# Altium schematic symbol library Schlib1.SchLib: 63 symbols (part 2 of 2)
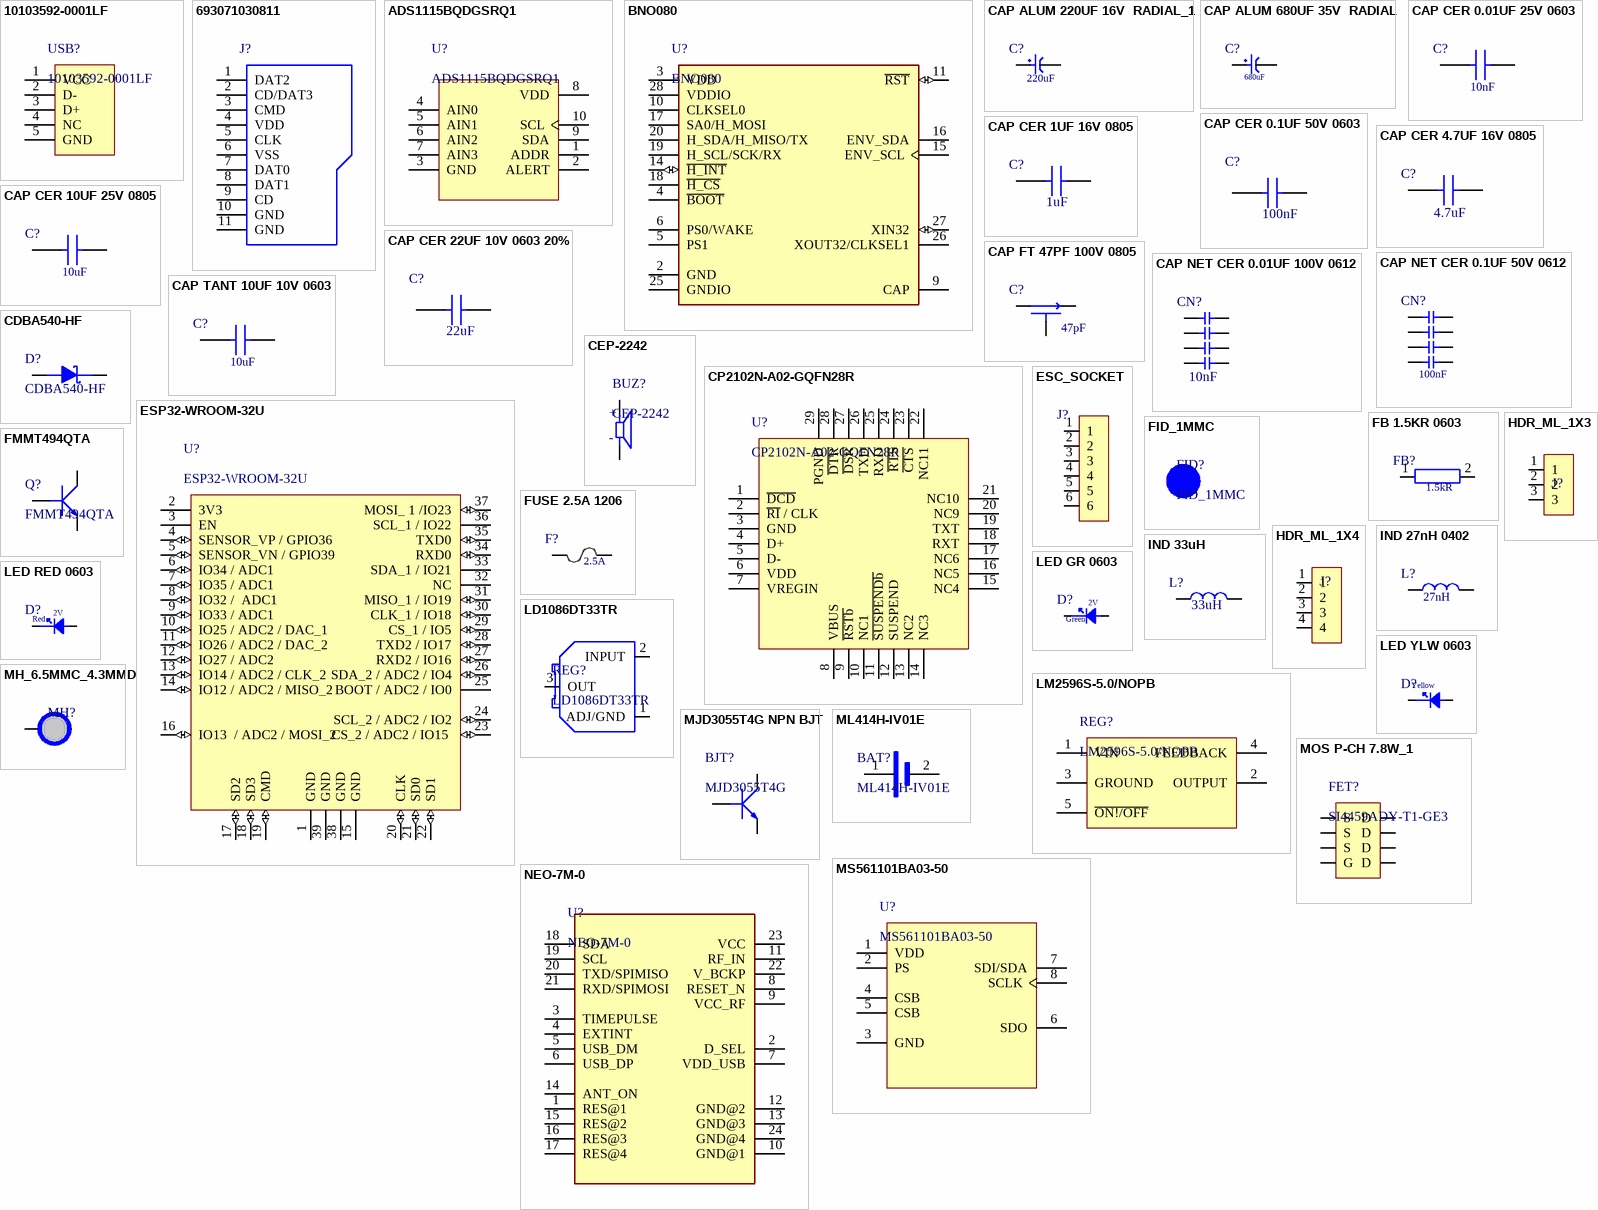
[diagram p2: symbols 10103592-0001LF to NEO-7M-0]

## MJD3055T4G NPN BJT
designator BJT?, comment MJD3055T4G
TRANS NPN 60V 10A DPAK; Manufacturer: ON Semiconductor; Max Power Dissipation: 1.75W; Frequency: 2MHz; Collector Base Voltage (VCBO): 70V; Emitter Base Voltage (VEBO): 5V; Number of Elements: 1; hFE Min: 20; Collector Emitter Saturation Voltage: 1.1V; Element Configuration: Single; Max Frequency: 500kHz; Collector-emitter Voltage-Max: 8V; Supplier 1: Digi-Key; Manufacturer Part Number: MJD3055T4G; RoHS: Yes; Category: BJTs; Stock 1: 25176; Pricing 1: 1=0.76000, 10=0.67100, 25=0.63000, 100=0.51410, 500=0.40640, 1000=0.33548 (USD); Case/Package: DPAK; Number of Pins: 3; Weight: 0.351; Min Operating Temperature: -55°C; Max Operating Temperature: 150°C; Package Quantity: 1; Collector Emitter Voltage (VCEO): 60V; Packaging: Tape and Reel; Polarity: NPN; Max Collector Current: 10A; Collector Emitter Breakdown Voltage: 60V; Transition Frequency: 2MHz; Power Dissipation: 1.75W; Max Breakdown Voltage: 60V; Gain Bandwidth Product: 2MHz; Voltage Rating (DC): 60V; Current Rating: 10A; Series: -; Length: 6.73mm; Width: 6.22mm; Height: 2.38mm; Radiation Hardening: No; Lead Free: Lead Free; RoHS Compliant: Yes; REACH SVHC: No SVHC; ComponentLink1URL: https://datasheet.ciiva.com/7972/79237-7972276.pdf?src-supplier=Element14; ComponentLink1Description: https://datasheet.ciiva.com/7972/79237-7972276.pdf?src-supplier=Element14; ComponentLink2URL: https://datasheet.ciiva.com/15139/getdatasheetpartid-91662-15139167.pdf?src-supplier=Verical; ComponentLink2Description: https://datasheet.ciiva.com/15139/getdatasheetpartid-91662-15139167.pdf?src-supplier=Verical; ComponentLink3URL: https://datasheet.ciiva.com/981/mjd2955-d-981380.pdf?src-supplier=Digi-Key; ComponentLink3Description: https://datasheet.ciiva.com/981/mjd2955-d-981380.pdf?src-supplier=Digi-Key; ComponentLink4URL: https://datasheet.ciiva.com/981/mjd2955-d-981381.pdf?src-supplier=Digi-Key; ComponentLink4Description: https://datasheet.ciiva.com/981/mjd2955-d-981381.pdf?src-supplier=Digi-Key; ComponentLink5URL: https://datasheet.ciiva.com/11205/mjd2955-d-11205173.pdf?src-supplier=Avnet; ComponentLink5Description: https://datasheet.ciiva.com/11205/mjd2955-d-11205173.pdf?src-supplier=Avnet; ComponentLink6URL: https://datasheet.ciiva.com/6357/mjd2955-d-6357033.pdf?src-supplier=Digi-Key; ComponentLink6Description: https://datasheet.ciiva.com/6357/mjd2955-d-6357033.pdf?src-supplier=Digi-Key; ComponentLink7URL: https://datasheet.ciiva.com/16462/mjd2955-d-16462217.pdf?src-supplier=Future+Electronics; ComponentLink7Description: https://datasheet.ciiva.com/16462/mjd2955-d-16462217.pdf?src-supplier=Future+Electronics; ComponentLink8URL: https://datasheet.ciiva.com/26115/mjd2955-d-26115500.pdf?src-supplier=Avnet+Europe; ComponentLink8Description: https://datasheet.ciiva.com/26115/mjd2955-d-26115500.pdf?src-supplier=Avnet+Europe; ComponentLink9URL: https://datasheet.ciiva.com/11198/mjd2955-d-11198541.pdf?src-supplier=Avnet; ComponentLink9Description: https://datasheet.ciiva.com/11198/mjd2955-d-11198541.pdf?src-supplier=Avnet; Supplier Part Number 1: MJD3055T4GOSCT-ND
footprint TO-263-3
pins: B, C, E

## ML414H-IV01E
designator BAT?
BATTERY LITHIUM 3V RECHARGE; Manufacturer: Seiko; Supplier 1: Mouser; Manufacturer Part Number: ML414H-IV01E; RoHS: Yes; Category: Batteries and Accessories; Stock 1: 5581; Pricing 1: 1=1.82000, 10=1.63000, 50=1.45000, 100=1.27000, 1000=0.96600, 10000=0.81500 (USD); Weight: 0.007; Termination: SMD/SMT; Package Quantity: 1; Voltage Rating: 3V; Packaging: Tape and Reel; ComponentLink1URL: https://datasheet.ciiva.com/3/ml414h-e-3633.pdf?src-supplier=Digi-Key; ComponentLink1Description: https://datasheet.ciiva.com/3/ml414h-e-3633.pdf?src-supplier=Digi-Key; ComponentLink2URL: https://datasheet.ciiva.com/3/ml414h-e-3634.pdf?src-supplier=Digi-Key; ComponentLink2Description: https://datasheet.ciiva.com/3/ml414h-e-3634.pdf?src-supplier=Digi-Key; Supplier Part Number 1: 628-ML414H-IV01E
footprint ML414H-IV01E
pins: 1 POS, 2 NEG

## MOS P-CH 7.8W_1
designator FET?, comment SI4459ADY-T1-GE3
VISHAY   SI4459ADY-T1-GE3   P CHANNEL MOSFET, -30V, 29A, SOIC, FULL REEL; Manufacturer: Vishay Siliconix; Rds On Max: 5mR; Input Capacitance: 6nF; Nominal Vgs: -2.5V; Rise Time: 16ns; Drain to Source Voltage (Vdss): 30V; Continuous Drain Current (ID): 19.7A; Max Power Dissipation: 7.8W; Gate to Source Voltage (Vgs): 20V; Fall Time: 20ns; Turn-Off Delay Time: 80ns; Number of Elements: 1; Power Dissipation: 3.5W; Element Configuration: Single; Polarity: P-CHANNEL; Supplier 1: Digi-Key; Manufacturer Part Number: SI4459ADY-T1-GE3; RoHS: Yes; Category: MOSFETs; Stock 1: 9839; Pricing 1: 1=1.62000, 10=1.45000, 25=1.37640, 100=1.13070, 500=0.93402, 1000=0.73738 (USD); Mount: Surface Mount; Case/Package: SOIC; Number of Pins: 8; Weight: 0.006596oz; Contact Plating: Tin,Matte; Min Operating Temperature: -55°C; Max Operating Temperature: 150°C; Package Quantity: 2500; Packaging: Tape and Reel; Drain to Source Resistance: 5mR; Threshold Voltage: -2.5V; Drain to Source Breakdown Voltage: -30V; Number of Channels: 1; Turn-On Delay Time: 16ns; On-State Resistance: 5MR; Series: TrenchFET®; Drain-source On Resistance-Max: 5MR; Length: 5mm; Width: 4mm; Height: 1.5mm; Radiation Hardening: No; REACH SVHC: Unknown; Lead Free: Lead Free; RoHS Compliant: Yes; ComponentLink1URL: https://datasheet.ciiva.com/933/si4459ad-933200.pdf?src-supplier=Digi-Key; ComponentLink1Description: https://datasheet.ciiva.com/933/si4459ad-933200.pdf?src-supplier=Digi-Key; ComponentLink2URL: https://datasheet.ciiva.com/13062/si4459ad-244618-13062620.pdf?src-supplier=Mouser; ComponentLink2Description: https://datasheet.ciiva.com/13062/si4459ad-244618-13062620.pdf?src-supplier=Mouser; ComponentLink3URL: https://datasheet.ciiva.com/933/si4459ad-933201.pdf?src-supplier=Digi-Key; ComponentLink3Description: https://datasheet.ciiva.com/933/si4459ad-933201.pdf?src-supplier=Digi-Key; ComponentLink4URL: https://datasheet.ciiva.com/933/si4459ad-933202.pdf?src-supplier=Digi-Key; ComponentLink4Description: https://datasheet.ciiva.com/933/si4459ad-933202.pdf?src-supplier=Digi-Key; ComponentLink5URL: https://datasheet.ciiva.com/7710/si4459ad-7710183.pdf?src-supplier=Element14; ComponentLink5Description: https://datasheet.ciiva.com/7710/si4459ad-7710183.pdf?src-supplier=Element14; ComponentLink6URL: https://datasheet.ciiva.com/26136/si4459ad-26136775.pdf?src-supplier=Avnet+Europe; ComponentLink6Description: https://datasheet.ciiva.com/26136/si4459ad-26136775.pdf?src-supplier=Avnet+Europe; Supplier Part Number 1: SI4459ADY-T1-GE3CT-ND
footprint SOIC-8
pins: 1 S, 2 S, 3 S, 4 G, 5 D, 6 D, 7 D, 8 D

## MS561101BA03-50
designator U?
SENSOR SOLUTIONS - TE CONNECTIVITY - MS561101BA03-50 - MS5611-BT M-CAPS 3X5X1MM T&R / T&R; Operating Supply Voltage: 3.6V; Output Type: SPI,I2C; Pressure Type: Absolute; Operating Pressure: 17.4PSI; Port Style: No Port; Max Pressure: 87.02PSI; Supplier 1: Mouser; Manufacturer: TE Connectivity; Manufacturer Part Number: MS561101BA03-50; RoHS: Yes; Category: Pressure Sensors; Stock 1: 6749; Pricing 1: 1=10.84000, 10=8.20000, 50=8.20000, 100=7.25000, 1000=6.32000, 10000=6.13000 (USD); Case/Package: SMD/SMT; Number of Pins: 8; Min Operating Temperature: -40°C; Max Operating Temperature: 85°C; Termination: SMD/SMT; Lead Free: Lead Free; RoHS Compliant: Yes; ComponentLink1URL: http://www.farnell.com/datasheets/2917208.pdf?src-supplier=Farnell; ComponentLink1Description: http://www.farnell.com/datasheets/2917208.pdf?src-supplier=Farnell; ComponentLink2URL: http://www.farnell.com/datasheets/1756128.pdf?src-supplier=Newark; ComponentLink2Description: http://www.farnell.com/datasheets/1756128.pdf?src-supplier=Newark; ComponentLink3URL: https://www.te.com/commerce/DocumentDelivery/DDEController?Action=srchrtrv&DocNm=MS5611-01BA03&DocType=Data+Sheet&DocLang=English&src-supplier=Digi-Key; ComponentLink3Description: https://www.te.com/commerce/DocumentDelivery/DDEController?Action=srchrtrv&DocNm=MS5611-01BA03&DocType=Data+Sheet&DocLang=English&src-supplier=Digi-Key; Supplier Part Number 1: 824-MS561101BA03-50; Weight: 0.034
footprint MS561101BA03-50
pins: 1 VDD (power), 2 PS (power), 3 GND (power), 4 CSB (power), 5 CSB (power), 6 SDO (power), 7 SDI/SDA (power), 8 SCLK (power)

## NEO-7M-0
designator U?
series RF Receiver GLONASS, GNSS, GPS 1.575GHz -161dBm - - -; Manufacturer: u-blox; Interface: I2C,SPI,USB,UART; Supplier 1: Digi-Key; Manufacturer Part Number: NEO-7M-0; RoHS: Yes; Category: RF Receivers, Transceivers; Pricing 1: 1=26.50000, 10=25.70000, 50=21.08000, 100=16.88010 (USD); Case/Package: SMD/SMT; Min Operating Temperature: -40°C; Max Operating Temperature: 85°C; Packaging: Tape and Reel; Frequency: 1.575GHz; Sensitivity: -161dBm; ComponentLink1URL: https://www.u-blox.com/sites/default/files/products/documents/NEO-7_DataSheet_%28UBX-13003830%29.pdf?src-supplier=Digi-Key; ComponentLink1Description: https://www.u-blox.com/sites/default/files/products/documents/NEO-7_DataSheet_%28UBX-13003830%29.pdf?src-supplier=Digi-Key; Supplier Part Number 1: 672-NEO-7M-0CT-ND
footprint NEO-7M-0
pins: 1 RES@1 (power), 2 D_SEL (power), 3 TIMEPULSE (power), 4 EXTINT (power), 5 USB_DM (power), 6 USB_DP (power), 7 VDD_USB (power), 8 RESET_N (power), 9 VCC_RF (power), 10 GND@1 (power), 11 RF_IN (power), 12 GND@2 (power), 13 GND@3 (power), 14 ANT_ON (power), 15 RES@2 (power), 16 RES@3 (power), 17 RES@4 (power), 18 SDA (power), 19 SCL (power), 20 TXD/SPIMISO (power), 21 RXD/SPIMOSI (power), 22 V_BCKP (power), 23 VCC (power), 24 GND@4 (power)

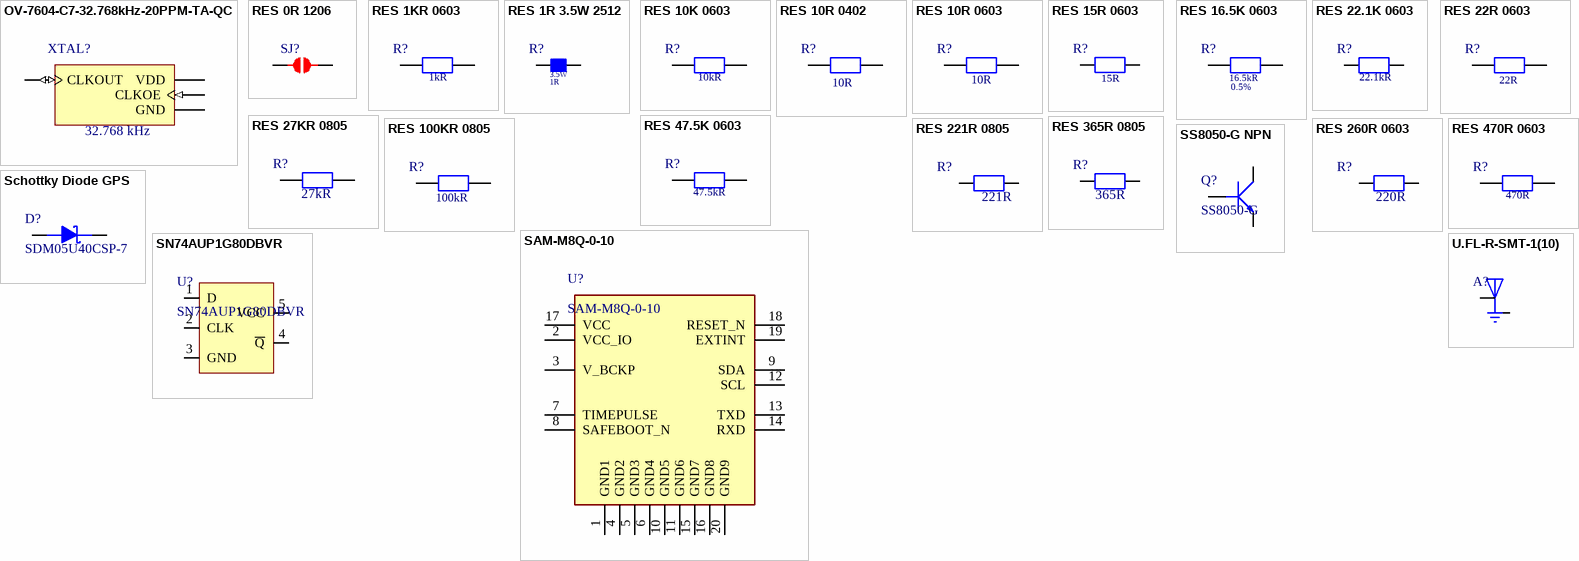
[diagram p1: symbols OV-7604-C7-32.768kHz-20PPM-TA-QC to U.FL-R-SMT-1(10)]

## OV-7604-C7-32.768kHz-20PPM-TA-QC
designator XTAL?  Frequency: 32.768 kHz  (hidden comment: OV-7604-C7-32.768kHz-20PPM-TA-QC)
Osc Xo 32.768KHZ SMD; Manufacturer: Micro Crystal; Supplier 1: Digi-Key; Manufacturer Part Number: OV-7604-C7-32.768kHz-20PPM-TA-QC; RoHS: No; Category: Oscillators; Stock 1: 24629; Pricing 1: 1=2.00000, 10=1.91300, 50=1.86880, 100=1.60180, 500=1.55732 (USD); ComponentLink1URL: https://www.mouser.com/ds/2/530/OV-7604-C7-1128495.pdf?src-supplier=Mouser; ComponentLink1Description: https://www.mouser.com/ds/2/530/OV-7604-C7-1128495.pdf?src-supplier=Mouser; Supplier Part Number 1: 2195-OV-7604-C7-32.768KHZ-20PPM-TA-QCCT-ND; Weight: 0.173
footprint OV-7604-C7-32.768KHZ-20PPM-TA-QC
pins: 1 CLKOUT (io), 2 GND (power), 3 CLKOE (in), 4 VDD (power)

## RES 0R 1206
designator SJ?, comment RC1206FR-070RL  (value not drawn)
RES SMD 0 OHM JUMPER 1/4W 1206; Manufacturer: Yageo; Tolerance: 1%; Temperature Coefficient: 200ppm/°C; Power Rating: 250mW; Resistance: 0R; Supplier 1: Digi-Key; Manufacturer Part Number: RC1206FR-070RL; RoHS: Yes; Category: Chip SMD Resistors; Stock 1: 128672; Pricing 1: 1=0.10000, 10=0.05800, 25=0.04160, 50=0.03180, 100=0.02350, 250=0.01792, 500=0.01432, 1000=0.01055 (USD); Mount: Surface Mount; Case/Package: 1206; Contact Plating: Tin,Matte; Case Code (Metric): 3216; Case Code (Imperial): 1206; Size Code: 1206; Min Operating Temperature: -55°C; Max Operating Temperature: 155°C; Resistor Type: Thick Film; Packaging: Tape and Reel; Number of Terminations: 2; Max Power Dissipation: 250mW; Features: Moisture Resistant; Series: RC; Length: 0.122inch; Width: 0.063inch; Height: 0.026inch; Radiation Hardening: No; RoHS Compliant: Yes; Lead Free: Lead Free; ComponentLink1URL: https://datasheet.ciiva.com/17032/pyu-rc1206-51-rohs-l-4-17032972.pdf?src-supplier=Future+Electronics; ComponentLink1Description: https://datasheet.ciiva.com/17032/pyu-rc1206-51-rohs-l-4-17032972.pdf?src-supplier=Future+Electronics; Supplier Part Number 1: YAG3367CT-ND; Weight: 0.016
footprint RES 1206
pins: 1, 2

## RES 1KR 0603
designator R?, comment Resistance: 1kR  (hidden comment: RC0603FR-071KL)
RES SMD 1K OHM 1% 1/10W 0603; Manufacturer: Yageo; Temperature Coefficient: 100ppm/°C; Power Rating: 100mW; Voltage Rating: 50V; Supplier 1: Digi-Key; Manufacturer Part Number: RC0603FR-071KL; RoHS: Yes; Category: Chip SMD Resistors; Stock 1: 12963545; Pricing 1: 1=0.10000, 10=0.02400, 100=0.00970, 1000=0.00436, 2500=0.00378 (USD); Case/Package: 0603; Contact Plating: Tin,Matte; Case Code (Imperial): 0603; Case Code (Metric): 1608; Size Code: 0603; Min Operating Temperature: -55°C; Max Operating Temperature: 155°C; Tolerance: 1%; Resistor Type: Thick Film; Packaging: Tape and Reel; Termination: SMD/SMT; Features: Moisture Resistant; Series: RC; Max Power Dissipation: 100mW; Number of Terminations: 2; Technology: THICK FILM; Resistance Tolerance: 1%; Construction: Rectangular; Length: 1.6mm; Height: 0.45mm; Depth: 0.8mm; Radiation Hardening: No; REACH SVHC: No SVHC; Lead Free: Lead Free; Military Standard: Not; RoHS Compliant: Yes; Supplier Part Number 1: 311-1.00KHRCT-ND; Weight: 0.016
footprint RES 0603
pins: 1, 2

## RES 1R 3.5W 2512
designator R?, comment Power (Watts): 3.5W  Resistance: 1R  (hidden comment: 738-CSRT2512FT1R00-UPCT-ND)
1 Ohms ±1% 3.5W Chip Resistor 2512 (6432 Metric) Automotive AEC-Q200, Current Sense Thin Film; Manufacturer: Stackpole Electronics; Manufacturer Part Number: CSRT2512FT1R00-UP; RoHS: Yes; Stock 1: 7478; Pricing 1: 1=0.67000, 10=0.56000, 25=0.48000, 50=0.43200, 100=0.37600, 250=0.33600, 500=0.27200, 1000=0.22000 (USD); Supplier 1: Digi-Key; ComponentLink1Description: Datasheet; ComponentLink1URL: https://www.seielect.com/Catalog/SEI-CSRT.pdf; Package / Case: 2512; Operating Temperature: 55°C ~ 170°C; Tolerance: ±1%; Supplier Part Number 1: 738-CSRT2512FT1R00-UPCT-ND
footprint RES 2512
pins: 1, 2

## RES 10K 0603
designator R?, comment Resistance: 10kR  (hidden comment: RC0603FR-0710KL)
Res General Purpose Thick Film 0603 10K Ohm 1% 1/10W ±100ppm/°C Molded SMD Paper T/R; Manufacturer: Yageo; Voltage Rating (DC): 50V; Power Rating: 100mW; Voltage Rating: 75V; Supplier 1: Digi-Key; Manufacturer Part Number: RC0603FR-0710KL; RoHS: Yes; Category: Chip SMD Resistors; Stock 1: 17970648; Pricing 1: 1=0.10000, 10=0.02400, 100=0.00970, 1000=0.00436, 2500=0.00378 (USD); Case/Package: 0603; Number of Pins: 2; Case Code (Imperial): 0603; Case Code (Metric): 1608; Weight: 0.002; Size Code: 0603; Min Operating Temperature: -55°C; Max Operating Temperature: 155°C; Tolerance: 1%; Resistor Type: Thick Film; Temperature Coefficient: 100ppm/°C; Packaging: Tape and Reel; Termination: SMD/SMT; Features: Moisture Resistant; Series: RC; Max Power Dissipation: 100mW; Number of Terminations: 2; Resistance Tolerance: 1%; Construction: Rectangular; Length: 1.6mm; Width: 0.8mm; Height: 0.45mm; Depth: 0.8mm; Lead Pitch: 0.3mm; REACH SVHC: Unknown; Lead Free: Lead Free; Military Standard: Not; RoHS Compliant: Yes; ComponentLink1URL: https://datasheet.ciiva.com/7660/38590-7660789.pdf?src-supplier=Element14; ComponentLink1Description: https://datasheet.ciiva.com/7660/38590-7660789.pdf?src-supplier=Element14; ComponentLink2URL: https://datasheet.ciiva.com/7983/443971-7983596.pdf?src-supplier=Element14; ComponentLink2Description: https://datasheet.ciiva.com/7983/443971-7983596.pdf?src-supplier=Element14; ComponentLink3URL: https://datasheet.ciiva.com/22747/443971-22747519.pdf?src-supplier=Element14; ComponentLink3Description: https://datasheet.ciiva.com/22747/443971-22747519.pdf?src-supplier=Element14; ComponentLink4URL: https://datasheet.ciiva.com/46440/1868787-46440891.pdf?src-supplier=Element14; ComponentLink4Description: https://datasheet.ciiva.com/46440/1868787-46440891.pdf?src-supplier=Element14; ComponentLink5URL: https://datasheet.ciiva.com/7746/1738695-7746239.pdf?src-supplier=Element14; ComponentLink5Description: https://datasheet.ciiva.com/7746/1738695-7746239.pdf?src-supplier=Element14; ComponentLink6URL: https://datasheet.ciiva.com/15189/getdatasheetpartid-409289-15189591.pdf?src-supplier=Verical; ComponentLink6Description: https://datasheet.ciiva.com/15189/getdatasheetpartid-409289-15189591.pdf?src-supplier=Verical; Supplier Part Number 1: 311-10.0KHRCT-ND
footprint RES 0603
pins: 1, 2

## RES 10R 0402
designator R?, comment Resistance: 10R  (hidden comment: RK73H1ERTTP10R0F)
Thick Film Resistors - SMD Anti Sulfur 0.5 Tol. 0402 -55oC to 155oC; Manufacturer: KOA Speer; Power Rating: 63mW; Tolerance: 1%; Voltage Rating: 50V; Temperature Coefficient: 100ppm/°C; Supplier 1: Digi-Key; Manufacturer Part Number: RK73H1ERTTP10R0F; RoHS: Yes; Category: Chip SMD Resistors; Stock 1: 108727; Pricing 1: 1=0.14000, 10=0.12700, 100=0.04890, 1000=0.02150, 2500=0.01857, 5000=0.01662 (USD); Case/Package: 0402; Case Code (Imperial): 0402; Case Code (Metric): 1005; Weight: 2.3E-05oz; Min Operating Temperature: -55°C; Max Operating Temperature: 155°C; Packaging: Tape and Reel; Package Quantity: 10000; Termination: SMD/SMT; Length: 1mm; Width: 0.5mm; Height: 0.35mm; ComponentLink1URL: http://www.mouser.com/ds/2/219/RK73H-5715.pdf?src-supplier=Mouser; ComponentLink1Description: http://www.mouser.com/ds/2/219/RK73H-5715.pdf?src-supplier=Mouser; Supplier Part Number 1: 2019-RK73H1ERTTP10R0FCT-ND
footprint Res 0402
pins: 1, 2

## RES 10R 0603
designator R?, comment Resistance: 10R  (hidden comment: RR0816Q-100-D)
RES SMD 10 OHM 0.5% 1/16W 0603; Manufacturer: Susumu; Power Rating: 63mW; Voltage Rating: 75V; Temperature Coefficient: 50ppm/°C; Supplier 1: Digi-Key; Manufacturer Part Number: RR0816Q-100-D; RoHS: Yes; Category: Chip SMD Resistors; Stock 1: 159301; Pricing 1: 1=0.10000, 10=0.08500, 100=0.03260, 1000=0.01432, 2500=0.01237 (USD); Case/Package: 0603; Number of Pins: 2; Case Code (Imperial): 0603; Case Code (Metric): 1608; Size Code: 0603; Min Operating Temperature: -55°C; Max Operating Temperature: 125°C; Packaging: Tape and Reel; Tolerance: 0.5%; Package Quantity: 1; Termination: SMD/SMT; Resistor Type: Thin Film; Number of Terminations: 2; Max Power Dissipation: 63mW; Voltage Rating (DC): 75V; Series: RR; Resistance Tolerance: 0.5%; Technology: THIN FILM; Length: 1.6mm; Width: 0.8mm; Height: 0.4mm; Depth: 0.8mm; RoHS Compliant: Yes; REACH SVHC: Unknown; Lead Free: Lead Free; ComponentLink1URL: https://datasheet.ciiva.com/11820/0900766b80808d64-11820511.pdf?src-supplier=RSComponents; ComponentLink1Description: https://datasheet.ciiva.com/11820/0900766b80808d64-11820511.pdf?src-supplier=RSComponents; ComponentLink2URL: https://datasheet.ciiva.com/2526/rr-data-sheet-2526835.pdf?src-supplier=Digi-Key; ComponentLink2Description: https://datasheet.ciiva.com/2526/rr-data-sheet-2526835.pdf?src-supplier=Digi-Key; ComponentLink3URL: https://datasheet.ciiva.com/2526/rr-data-sheet-2526836.pdf?src-supplier=Digi-Key; ComponentLink3Description: https://datasheet.ciiva.com/2526/rr-data-sheet-2526836.pdf?src-supplier=Digi-Key; ComponentLink4URL: https://datasheet.ciiva.com/2526/rr-data-sheet-2526837.pdf?src-supplier=Digi-Key; ComponentLink4Description: https://datasheet.ciiva.com/2526/rr-data-sheet-2526837.pdf?src-supplier=Digi-Key; ComponentLink5URL: https://datasheet.ciiva.com/7984/87330-7984396.pdf?src-supplier=Element14; ComponentLink5Description: https://datasheet.ciiva.com/7984/87330-7984396.pdf?src-supplier=Element14; Supplier Part Number 1: RR08Q10DCT-ND
footprint RES 0603
pins: 1, 2

## RES 15R 0603
designator R?, comment Resistance: 15R  (hidden comment: RC0603FR-0715RL)
Res Thick Film 0603 15 Ohm 1% 0.1W(1/10W) ±100ppm/C Epoxy SMD T/R; Manufacturer: Yageo; Temperature Coefficient: 100ppm/°C; Voltage Rating (DC): 50V; Power Rating: 100mW; Supplier 1: Digi-Key; Manufacturer Part Number: RC0603FR-0715RL; RoHS: Yes; Category: Chip SMD Resistors; Stock 1: 339748; Pricing 1: 1=0.10000, 10=0.02400, 100=0.00970, 1000=0.00436, 2500=0.00378 (USD); Case/Package: 0603; Number of Pins: 2; Contact Plating: Tin,Matte; Case Code (Metric): 1608; Case Code (Imperial): 0603; Size Code: 0603; Min Operating Temperature: -55°C; Max Operating Temperature: 155°C; Tolerance: 1%; Resistor Type: Thick Film; Packaging: Tape and Reel; Voltage Rating: 50V; Package Quantity: 1; Number of Terminations: 2; Termination: SMD/SMT; Max Power Dissipation: 100mW; Features: Moisture Resistant; Series: RC; Construction: Rectangular; Resistance Tolerance: 1%; Length: 1.6mm; Width: 0.8mm; Height: 0.022inch; Depth: 0.8mm; Radiation Hardening: No; REACH SVHC: No SVHC; Lead Free: Lead Free; Military Standard: Not; RoHS Compliant: Yes; ComponentLink1URL: https://datasheet.ciiva.com/7746/443971-7746262.pdf?src-supplier=Element14; ComponentLink1Description: https://datasheet.ciiva.com/7746/443971-7746262.pdf?src-supplier=Element14; ComponentLink2URL: https://datasheet.ciiva.com/8890/pyu-rc0603-51-rohs-l-4-8890742.pdf?src-supplier=Avnet; ComponentLink2Description: https://datasheet.ciiva.com/8890/pyu-rc0603-51-rohs-l-4-8890742.pdf?src-supplier=Avnet; ComponentLink3URL: https://datasheet.ciiva.com/7746/443971-7746263.pdf?src-supplier=Element14; ComponentLink3Description: https://datasheet.ciiva.com/7746/443971-7746263.pdf?src-supplier=Element14; ComponentLink4URL: https://datasheet.ciiva.com/2454/pyu-r-int-thick-7-2454840.pdf?src-supplier=Digi-Key; ComponentLink4Description: https://datasheet.ciiva.com/2454/pyu-r-int-thick-7-2454840.pdf?src-supplier=Digi-Key; ComponentLink5URL: https://datasheet.ciiva.com/5989/1686128-5989704.pdf?src-supplier=Farnell; ComponentLink5Description: https://datasheet.ciiva.com/5989/1686128-5989704.pdf?src-supplier=Farnell; ComponentLink6URL: https://datasheet.ciiva.com/2454/pyu-r-int-thick-7-2454841.pdf?src-supplier=Digi-Key; ComponentLink6Description: https://datasheet.ciiva.com/2454/pyu-r-int-thick-7-2454841.pdf?src-supplier=Digi-Key; ComponentLink7URL: https://datasheet.ciiva.com/2454/pyu-r-int-thick-7-2454842.pdf?src-supplier=Digi-Key; ComponentLink7Description: https://datasheet.ciiva.com/2454/pyu-r-int-thick-7-2454842.pdf?src-supplier=Digi-Key; ComponentLink8URL: https://datasheet.ciiva.com/16940/pyu-rc0603-51-rohs-l-4-16940366.pdf?src-supplier=Avnet+Europe; ComponentLink8Description: https://datasheet.ciiva.com/16940/pyu-rc0603-51-rohs-l-4-16940366.pdf?src-supplier=Avnet+Europe; ComponentLink9URL: https://datasheet.ciiva.com/12557/rc0603-272842-12557839.pdf?src-supplier=Mouser; ComponentLink9Description: https://datasheet.ciiva.com/12557/rc0603-272842-12557839.pdf?src-supplier=Mouser; Supplier Part Number 1: 311-15.0HRCT-ND; Weight: 0.002
footprint RES 0603
pins: 1, 2

## RES 16.5K 0603
designator R?, comment Tolerance: 0.5%  Resistance: 16.5kR  (hidden comment: ERJ-PB3D1652V)
Res Thick Film 0603 16.5K Ohm 0.5% 0.2W(1/5W) ±50ppm/C Pad SMD Automotive T/R; Manufacturer: Panasonic; Max Power Dissipation: 200mW; Temperature Coefficient: 50ppm/°C; Supplier 1: Digi-Key; Manufacturer Part Number: ERJ-PB3D1652V; RoHS: Yes; Category: Chip SMD Resistors; Stock 1: 4762; Pricing 1: 1=0.16000, 10=0.13500, 25=0.09840, 50=0.07140, 100=0.05290, 250=0.04060, 500=0.03198, 1000=0.02214 (USD); Case/Package: 0603; Case Code (Metric): 1608; Case Code (Imperial): 0603; Min Operating Temperature: -55°C; Max Operating Temperature: 155°C; Packaging: Tape and Reel; Features: Automotive AEC-Q200; Resistor Type: Thick Film; Number of Terminations: 2; Length: 0.063inch; Width: 0.032inch; Height - Seated (Max): 0.022inch; ComponentLink1URL: https://industrial.panasonic.com/sa/system/files/data/download/catalog/id_fixed-resistors_e_2.pdf?src-supplier=Digi-Key; ComponentLink1Description: https://industrial.panasonic.com/sa/system/files/data/download/catalog/id_fixed-resistors_e_2.pdf?src-supplier=Digi-Key; Supplier Part Number 1: P20420CT-ND
footprint RES 0603
pins: 1, 2

## RES 22.1K 0603
designator R?, comment Resistance: 22.1kR  (hidden comment: RMCF0603FT22K1)
RMCF Series 0603 Case 22.1 kOhm ±1 % ±100 ppm/°C SMT Thick Film Chip Resistor; Manufacturer: Stackpole Electronics; Tolerance: 1%; Power Rating: 100mW; Supplier 1: Digi-Key; Manufacturer Part Number: RMCF0603FT22K1; RoHS: Yes; Category: Chip SMD Resistors; Stock 1: 492582; Pricing 1: 1=0.10000, 10=0.01700, 100=0.00680, 1000=0.00305, 2500=0.00264 (USD); Mount: Surface Mount; Case/Package: 0603; Case Code (Metric): 1608; Case Code (Imperial): 0603; Contact Plating: Tin,Matte; Size Code: 0603; Min Operating Temperature: -55°C; Max Operating Temperature: 155°C; Packaging: Tape and Reel; Package Quantity: 1; Resistor Type: Thick Film; Number of Terminations: 2; Max Power Dissipation: 100mW; Temperature Coefficient: 100ppm/°C; Features: Automotive AEC-Q200; Series: RMCF; Construction: Rectangular; Length: 0.061inch; Width: 0.031inch; Height: 0.022inch; Depth: 0.8mm; Radiation Hardening: No; Military Standard: Not; Lead Free: Lead Free; RoHS Compliant: Yes; ComponentLink1URL: http://components.arrow.com/part/dataview/40960961S7171997N1174?src-supplier=Arrow+Electronics; ComponentLink1Description: http://components.arrow.com/part/dataview/40960961S7171997N1174?src-supplier=Arrow+Electronics; ComponentLink2URL: https://www.verical.com/server-webapp/html/getDatasheet?partID=375344&src-supplier=Verical; ComponentLink2Description: https://www.verical.com/server-webapp/html/getDatasheet?partID=375344&src-supplier=Verical; ComponentLink3URL: https://www.seielect.com/catalog/SEI-Packaging.pdf?src-supplier=Digi-Key; ComponentLink3Description: https://www.seielect.com/catalog/SEI-Packaging.pdf?src-supplier=Digi-Key; ComponentLink4URL: https://www.seielect.com/Catalog/SEI-RMCF_RMCP.pdf?src-supplier=Digi-Key; ComponentLink4Description: https://www.seielect.com/Catalog/SEI-RMCF_RMCP.pdf?src-supplier=Digi-Key; ComponentLink5URL: https://www.seielect.com/catalog/SEI-RMCF_RMCP.pdf?src-supplier=Avnet; ComponentLink5Description: https://www.seielect.com/catalog/SEI-RMCF_RMCP.pdf?src-supplier=Avnet; ComponentLink6URL: http://www.seielect.com/Catalog/SEI-RMC.pdf?src-supplier=Future+Electronics; ComponentLink6Description: http://www.seielect.com/Catalog/SEI-RMC.pdf?src-supplier=Future+Electronics; Supplier Part Number 1: RMCF0603FT22K1CT-ND; Weight: 0.002
footprint RES 0603
pins: 1, 2

## RES 22R 0603
designator R?, comment Resistance: 22R  (hidden comment: RC1608F220CS)
Res Thick Film 0603 22 Ohm 1% 0.1W(1/10W) ±100ppm/C Molded SMD T/R; Manufacturer: Samsung; Temperature Coefficient: 100ppm/°C; Max Power Dissipation: 100mW; Voltage Rating (DC): 50V; Supplier 1: Digi-Key; Manufacturer Part Number: RC1608F220CS; RoHS: Yes; Category: Chip SMD Resistors; Stock 1: 185000; Pricing 1: 5000=0.01114 (USD); Case/Package: 0603; Contact Plating: Tin; Case Code (Metric): 1608; Case Code (Imperial): 0603; Min Operating Temperature: -55°C; Max Operating Temperature: 155°C; Tolerance: 1%; Resistor Type: Thick Film; Packaging: Tape and Reel; Package Quantity: 1; Number of Terminations: 2; Features: Moisture Resistant; Series: RC; Construction: Rectangular; Length: 0.063inch; Width: 0.031inch; Height: 0.022inch; Depth: 0.8mm; Radiation Hardening: No; Military Standard: Not; Lead Free: Lead Free; RoHS Compliant: Yes; ComponentLink1URL: http://components.arrow.com/part/dataview/0323_06012558?src-supplier=Arrow+Europe; ComponentLink1Description: http://components.arrow.com/part/dataview/0323_06012558?src-supplier=Arrow+Europe; ComponentLink2URL: http://components.arrow.com/part/dataview/51838512S5627638N4139?src-supplier=Arrow+Electronics; ComponentLink2Description: http://components.arrow.com/part/dataview/51838512S5627638N4139?src-supplier=Arrow+Electronics; ComponentLink3URL: https://sem.samsung.co.kr/servlet/DownloadServlet?dir=product/en/A070002&num=&fileName=Resistor-Precision1.pdf&src-supplier=Avnet; ComponentLink3Description: https://sem.samsung.co.kr/servlet/DownloadServlet?dir=product/en/A070002&num=&fileName=Resistor-Precision1.pdf&src-supplier=Avnet; ComponentLink4URL: http://www.samsungsem.com/kr/support/product-search/chip-resistor/RC1608F220CS.jsp?src-supplier=Digi-Key; ComponentLink4Description: http://www.samsungsem.com/kr/support/product-search/chip-resistor/RC1608F220CS.jsp?src-supplier=Digi-Key; ComponentLink5URL: https://sem.samsung.co.kr/servlet/DownloadServlet?dir=product/en/A070002&num=&fileName=Resistor-Precision1.pdf&src-supplier=Avnet+Europe; ComponentLink5Description: https://sem.samsung.co.kr/servlet/DownloadServlet?dir=product/en/A070002&num=&fileName=Resistor-Precision1.pdf&src-supplier=Avnet+Europe; Supplier Part Number 1: 1276-4511-2-ND; Weight: 0.002
footprint RES 0603
pins: 1, 2

## RES 27KR 0805
designator R?, comment Resistance: 27kR  (hidden comment: ERJ-6ENF2702V)
Resistor;  Thick Film;  Res 27 Kilohms;  Pwr-Rtg 0.125 W;  Tol 1%;  SMT;  0805;  Tape & Reel; Manufacturer: Panasonic; Temperature Coefficient: 100ppm/°C; Power Rating: 125mW; Voltage Rating: 150V; Supplier 1: Digi-Key; Manufacturer Part Number: ERJ-6ENF2702V; RoHS: Yes; Category: Chip SMD Resistors; Stock 1: 154450; Pricing 1: 1=0.10000, 10=0.07500, 100=0.02880, 1000=0.01265, 2500=0.01092 (USD); Mount: Surface Mount; Case/Package: 0805; Number of Pins: 2; Contact Plating: Tin; Case Code (Imperial): 0805; Case Code (Metric): 2012; Min Operating Temperature: -55°C; Max Operating Temperature: 155°C; Tolerance: 1%; Resistor Type: Thick Film; Packaging: Tape and Reel; Package Quantity: 1; Termination: SMD/SMT; Number of Terminations: 2; Max Power Dissipation: 125mW; Features: Automotive AEC-Q200; Series: ERJ; Resistance Tolerance: 1%; Construction: Rectangular; Technology: THICK FILM; Voltage Rating (DC): 150V; Length: 2mm; Width: 1.2mm; Height: 0.6mm; Depth: 1.25mm; Radiation Hardening: No; REACH SVHC: No SVHC; Military Standard: Not; RoHS Compliant: Yes; ComponentLink1URL: https://datasheet.ciiva.com/11821/0900766b80f80784-11821581.pdf?src-supplier=RSComponents; ComponentLink1Description: https://datasheet.ciiva.com/11821/0900766b80f80784-11821581.pdf?src-supplier=RSComponents; ComponentLink2URL: https://datasheet.ciiva.com/46373/1678782-46373269.pdf?src-supplier=Element14; ComponentLink2Description: https://datasheet.ciiva.com/46373/1678782-46373269.pdf?src-supplier=Element14; ComponentLink3URL: https://datasheet.ciiva.com/7887/426256-7887032.pdf?src-supplier=Element14; ComponentLink3Description: https://datasheet.ciiva.com/7887/426256-7887032.pdf?src-supplier=Element14; ComponentLink4URL: https://datasheet.ciiva.com/9191/aoa0000ce2-9191273.pdf?src-supplier=Avnet; ComponentLink4Description: https://datasheet.ciiva.com/9191/aoa0000ce2-9191273.pdf?src-supplier=Avnet; ComponentLink5URL: https://datasheet.ciiva.com/17210/aoa0000ce2-17210633.pdf?src-supplier=Avnet+Europe; ComponentLink5Description: https://datasheet.ciiva.com/17210/aoa0000ce2-17210633.pdf?src-supplier=Avnet+Europe; ComponentLink6URL: https://datasheet.ciiva.com/22673/1678782-22673705.pdf?src-supplier=Element14; ComponentLink6Description: https://datasheet.ciiva.com/22673/1678782-22673705.pdf?src-supplier=Element14; ComponentLink7URL: https://datasheet.ciiva.com/22687/1678782-22687081.pdf?src-supplier=Element14; ComponentLink7Description: https://datasheet.ciiva.com/22687/1678782-22687081.pdf?src-supplier=Element14; ComponentLink8URL: https://datasheet.ciiva.com/16512/aoa0000ce2-16512218.pdf?src-supplier=Avnet+Asia; ComponentLink8Description: https://datasheet.ciiva.com/16512/aoa0000ce2-16512218.pdf?src-supplier=Avnet+Asia; ComponentLink9URL: https://datasheet.ciiva.com/16760/70260748-16760047.pdf?src-supplier=Allied+Electronics; ComponentLink9Description: https://datasheet.ciiva.com/16760/70260748-16760047.pdf?src-supplier=Allied+Electronics; ComponentLink10URL: https://datasheet.ciiva.com/30053/aoa0000ce2-30053807.pdf?src-supplier=Onlinecomponents.com; ComponentLink10Description: https://datasheet.ciiva.com/30053/aoa0000ce2-30053807.pdf?src-supplier=Onlinecomponents.com; Supplier Part Number 1: P27.0KCCT-ND
footprint RES 0805
pins: 1, 2

## RES 47.5K 0603
designator R?, comment Resistance: 47.5kR  (hidden comment: RMCF0603FT47K5)
RES TF 1/10W 47.5K OHM 1% 0603; Manufacturer: Stackpole Electronics; Power Rating: 100mW; Temperature Coefficient: 100ppm/°C; Supplier 1: Digi-Key; Manufacturer Part Number: RMCF0603FT47K5; RoHS: Yes; Category: Chip SMD Resistors; Stock 1: 9989; Pricing 1: 1=0.10000, 10=0.01700, 100=0.00680, 1000=0.00305, 2500=0.00264 (USD); Mount: Surface Mount; Case/Package: 0603; Case Code (Metric): 1608; Case Code (Imperial): 0603; Contact Plating: Tin,Matte; Size Code: 0603; Min Operating Temperature: -55°C; Max Operating Temperature: 155°C; Tolerance: 1%; Packaging: Tape and Reel; Resistor Type: Thick Film; Number of Terminations: 2; Max Power Dissipation: 100mW; Features: Automotive AEC-Q200; Series: RMCF; Construction: Rectangular; Length: 1.55mm; Width: 0.031inch; Height: 0.022inch; Depth: 0.8mm; Radiation Hardening: No; Military Standard: Not; Lead Free: Lead Free; RoHS Compliant: Yes; ComponentLink1URL: https://datasheet.ciiva.com/15193/getdatasheetpartid-363741-15193482.pdf?src-supplier=Verical; ComponentLink1Description: https://datasheet.ciiva.com/15193/getdatasheetpartid-363741-15193482.pdf?src-supplier=Verical; Supplier Part Number 1: RMCF0603FT47K5CT-ND; Weight: 0.002
footprint RES 0603
pins: 1, 2

## RES 100KR 0805
designator R?, comment Resistance: 100kR  (hidden comment: RK73H2ATTD1003F)
KOA SPEER ELECTRONICS   RK73H2ATTD1003F   Surface Mount Chip Resistor, Thick Film, RK73H Series, 100 kohm, 125 mW,  1%, 150 V; Power Rating: 125mW; Voltage Rating: 150V; Temperature Coefficient: 100ppm/°C; Supplier 1: Digi-Key; Manufacturer: KOA Speer; Manufacturer Part Number: RK73H2ATTD1003F; RoHS: Yes; Category: Chip SMD Resistors; Stock 1: 50000; Pricing 1: 1=0.10000, 10=0.03500, 100=0.01420, 1000=0.00640, 2500=0.00556 (USD); Case/Package: 0805; Number of Pins: 2; Case Code (Imperial): 0805; Case Code (Metric): 2012; Min Operating Temperature: -55°C; Max Operating Temperature: 155°C; Tolerance: 1%; Packaging: Tape and Reel; Package Quantity: 5000; Resistor Type: Thick Film; Termination: SMD/SMT; Voltage Rating (DC): 150V; Series: RK73H; Construction: Rectangular; Resistance Tolerance: 1%; Length: 2mm; Width: 1.25mm; Height: 0.5mm; Depth: 1.25mm; Military Standard: Not; REACH SVHC: Unknown; Lead Free: Lead Free; RoHS Compliant: Yes; ComponentLink1URL: https://datasheet.ciiva.com/15159/getdatasheetpartid-87891-15159863.pdf?src-supplier=Verical; ComponentLink1Description: https://datasheet.ciiva.com/15159/getdatasheetpartid-87891-15159863.pdf?src-supplier=Verical; ComponentLink2URL: https://datasheet.ciiva.com/7706/549017-7706108.pdf?src-supplier=Element14; ComponentLink2Description: https://datasheet.ciiva.com/7706/549017-7706108.pdf?src-supplier=Element14; Supplier Part Number 1: 2019-RK73H2ATTD1003FCT-ND
footprint RES 0805
pins: 1, 2

## RES 221R 0805
designator R?, comment Resistance: 221R  (hidden comment: RMCF0805FT221R)
Res Thick Film 0805 221 Ohm 1% 0.125W(1/8W) ±100ppm/C Pad SMD Automotive T/R; Manufacturer: Stackpole Electronics; Max Power Dissipation: 125mW; Temperature Coefficient: 100ppm/°C; Supplier 1: Digi-Key; Manufacturer Part Number: RMCF0805FT221R; RoHS: Yes; Category: Chip SMD Resistors; Stock 1: 36824; Pricing 1: 1=0.10000, 10=0.02700, 100=0.01090, 1000=0.00488, 2500=0.00423 (USD); Mount: Surface Mount; Case/Package: 0805; Case Code (Metric): 2012; Case Code (Imperial): 0805; Contact Plating: Tin,Matte; Min Operating Temperature: -55°C; Max Operating Temperature: 155°C; Tolerance: 1%; Packaging: Tape and Reel; Resistor Type: Thick Film; Number of Terminations: 2; Features: Automotive AEC-Q200; Series: RMCF; Construction: Rectangular; Length: 2mm; Width: 0.049inch; Height: 0.026inch; Depth: 1.25mm; Radiation Hardening: No; Military Standard: Not; RoHS Compliant: Yes; ComponentLink1URL: https://datasheet.ciiva.com/15193/getdatasheetpartid-375103-15193557.pdf?src-supplier=Verical; ComponentLink1Description: https://datasheet.ciiva.com/15193/getdatasheetpartid-375103-15193557.pdf?src-supplier=Verical; Supplier Part Number 1: RMCF0805FT221RCT-ND; Weight: 0.002
footprint RES 0805
pins: 1, 2

## RES 260R 0603
designator R?, comment Resistance: 220R  (hidden comment: CRCW0603220RFKEBC)
CRCW Thick Film Commodity Chip Resistor 0603 Size 220 Ohm 1% 0.1 W 100 ppm/K 2-Pin SMD Paper T/R; Manufacturer: Vishay Dale; Max Power Dissipation: 100mW; Temperature Coefficient: 100ppm/°C; Supplier 1: Digi-Key; Manufacturer Part Number: CRCW0603220RFKEBC; RoHS: Yes; Stock 1: 40460; Pricing 1: 1=0.10000, 10=0.03600, 100=0.01450, 1000=0.00652, 2500=0.00566, 5000=0.00468 (USD); Case/Package: 0603; Min Operating Temperature: -55°C; Max Operating Temperature: 155°C; Resistor Type: Thick Film; Packaging: Tape and Reel; Tolerance: 1%; Number of Terminations: 2; ComponentLink1URL: http://www.vishay.com/docs/28773/crcwce3.pdf?src-supplier=Digi-Key; ComponentLink1Description: http://www.vishay.com/docs/28773/crcwce3.pdf?src-supplier=Digi-Key; Supplier Part Number 1: 541-CRCW0603220RFKEBCCT-ND; Weight: 0.002
footprint RES 0603
pins: 1, 2

## RES 365R 0805
designator R?, comment Resistance: 365R  (hidden comment: RC0805FR-07365RL)
RES SMD 365 OHM 1% 1/8W 0805; Manufacturer: Yageo; Power Rating: 125mW; Voltage Rating: 150V; Temperature Coefficient: 100ppm/°C; Supplier 1: Digi-Key; Manufacturer Part Number: RC0805FR-07365RL; RoHS: Yes; Category: Chip SMD Resistors; Stock 1: 53868; Pricing 1: 1=0.10000, 10=0.04200, 100=0.01690, 1000=0.00759, 2500=0.00659 (USD); Case/Package: 0805; Case Code (Imperial): 0805; Case Code (Metric): 2012; Size Code: 0805; Min Operating Temperature: -55°C; Max Operating Temperature: 155°C; Packaging: Tape and Reel; Tolerance: 1%; Termination: SMD/SMT; Resistor Type: Thick Film; Voltage Rating (DC): 150V; Features: Moisture Resistant; Series: RC; Max Power Dissipation: 125mW; Number of Terminations: 2; Construction: Rectangular; Length: 2mm; Width: 1.25mm; Height: 0.5mm; Depth: 1.25mm; Military Standard: Not; Lead Free: Lead Free; RoHS Compliant: Yes; ComponentLink1URL: http://components.arrow.com/part/dataview/0323_03541250?src-supplier=Arrow+Europe; ComponentLink1Description: http://components.arrow.com/part/dataview/0323_03541250?src-supplier=Arrow+Europe; ComponentLink2URL: http://www.yageo.com/documents/recent/PYu-RC_Group_51_RoHS_L_9.pdf?src-supplier=Digi-Key; ComponentLink2Description: http://www.yageo.com/documents/recent/PYu-RC_Group_51_RoHS_L_9.pdf?src-supplier=Digi-Key; ComponentLink3URL: http://www.yageo.ru/pdf/RC0805.pdf?src-supplier=Mouser; ComponentLink3Description: http://www.yageo.ru/pdf/RC0805.pdf?src-supplier=Mouser; ComponentLink4URL: http://www.yageo.ru/pdf/RC0805.pdf?src-supplier=Future+Electronics; ComponentLink4Description: http://www.yageo.ru/pdf/RC0805.pdf?src-supplier=Future+Electronics; ComponentLink5URL: http://www.yageo.com.tw/exep/pages/download/literatures/PYu-R_INT-thick_7.pdf?src-supplier=Digi-Key; ComponentLink5Description: http://www.yageo.com.tw/exep/pages/download/literatures/PYu-R_INT-thick_7.pdf?src-supplier=Digi-Key; Supplier Part Number 1: 311-365CRCT-ND; Weight: 0.002
footprint RES 0805
pins: 1, 2

## RES 470R 0603
designator R?, comment Resistance: 470R  (hidden comment: RC0603FR-07470RL)
YAGEO         RC0603FR-07470RL             SMD Chip Resistor, Thick Film, 470 ohm, 50 V, 0603 [1608 Metric], 100 mW,  1%, RC Series; Power Rating: 100mW; Voltage Rating: 50V; Temperature Coefficient: 100ppm/°C; Working Voltage: 75V; Supplier 1: Digi-Key; Manufacturer: Yageo; Manufacturer Part Number: RC0603FR-07470RL; RoHS: Yes; Category: Chip SMD Resistors; Stock 1: 785885; Pricing 1: 1=0.10000, 10=0.02400, 100=0.00970, 1000=0.00436, 2500=0.00378 (USD); Case/Package: 0603; Case Code (Metric): 1608; Case Code (Imperial): 0603; Min Operating Temperature: -55°C; Max Operating Temperature: 155°C; Tolerance: 1%; Packaging: Tape and Reel; Package Quantity: 1; Resistor Type: Thick Film; Number of Terminations: 2; Termination: SMD/SMT; Max Power Dissipation: 100mW; Features: Moisture Resistant; Series: RC; Technology: THICK FILM; Resistance Tolerance: 1%; Construction: Rectangular; Length: 1.6mm; Width: 0.031inch; Height: 0.022inch; Depth: 0.8mm; RoHS Compliant: Yes; REACH SVHC: No SVHC; Military Standard: Not; Lead Free: Lead Free; ComponentLink1URL: https://datasheet.ciiva.com/11808/0900766b80f96399-11808177.pdf?src-supplier=RSComponents; ComponentLink1Description: https://datasheet.ciiva.com/11808/0900766b80f96399-11808177.pdf?src-supplier=RSComponents; ComponentLink2URL: https://datasheet.ciiva.com/7746/1738695-7746359.pdf?src-supplier=Element14; ComponentLink2Description: https://datasheet.ciiva.com/7746/1738695-7746359.pdf?src-supplier=Element14; ComponentLink3URL: https://datasheet.ciiva.com/7746/1738695-7746360.pdf?src-supplier=Element14; ComponentLink3Description: https://datasheet.ciiva.com/7746/1738695-7746360.pdf?src-supplier=Element14; ComponentLink4URL: https://datasheet.ciiva.com/7660/1868787-7660793.pdf?src-supplier=Element14; ComponentLink4Description: https://datasheet.ciiva.com/7660/1868787-7660793.pdf?src-supplier=Element14; ComponentLink5URL: https://datasheet.ciiva.com/46440/1868787-46440907.pdf?src-supplier=Element14; ComponentLink5Description: https://datasheet.ciiva.com/46440/1868787-46440907.pdf?src-supplier=Element14; ComponentLink6URL: https://datasheet.ciiva.com/2454/pyu-r-int-thick-7-2454012.pdf?src-supplier=Digi-Key; ComponentLink6Description: https://datasheet.ciiva.com/2454/pyu-r-int-thick-7-2454012.pdf?src-supplier=Digi-Key; ComponentLink7URL: https://datasheet.ciiva.com/2454/pyu-r-int-thick-7-2454013.pdf?src-supplier=Digi-Key; ComponentLink7Description: https://datasheet.ciiva.com/2454/pyu-r-int-thick-7-2454013.pdf?src-supplier=Digi-Key; ComponentLink8URL: https://datasheet.ciiva.com/2454/pyu-r-int-thick-7-2454014.pdf?src-supplier=Digi-Key; ComponentLink8Description: https://datasheet.ciiva.com/2454/pyu-r-int-thick-7-2454014.pdf?src-supplier=Digi-Key; Supplier Part Number 1: 311-470HRCT-ND; Weight: 0.002
footprint RES 0603
pins: 1, 2

## SAM-M8Q-0-10
designator U?
Rf Rx Galileo 1.575GHZ/1.602GHZ; Manufacturer: u-blox; Interface: I2C,SPI,USB,UART; Sensitivity: -165dBm; Data Rate: 400Kbps; Supplier 1: Digi-Key; Manufacturer Part Number: SAM-M8Q-0-10; RoHS: Yes; Category: RF Receivers, Transceivers; Stock 1: 250; Pricing 1: 1=27.00000, 10=21.77000, 50=17.83000, 100=14.26010 (USD); Case/Package: SMD/SMT; Min Operating Temperature: -40°C; Max Operating Temperature: 85°C; Packaging: Tape and Reel; Frequency: 1.602GHz; ComponentLink1URL: https://www.u-blox.com/sites/default/files/SAM-M8Q_ProductSummary_%28UBX-15027452%29.pdf?src-supplier=Digi-Key; ComponentLink1Description: https://www.u-blox.com/sites/default/files/SAM-M8Q_ProductSummary_%28UBX-15027452%29.pdf?src-supplier=Digi-Key; ComponentLink2URL: https://www.u-blox.com/sites/default/files/SAM-M8Q_DataSheet_%28UBX-16012619%29.pdf?src-supplier=Digi-Key; ComponentLink2Description: https://www.u-blox.com/sites/default/files/SAM-M8Q_DataSheet_%28UBX-16012619%29.pdf?src-supplier=Digi-Key; Supplier Part Number 1: 672-1054-1-ND; Weight: 3.7
footprint SAM-M8
pins: 1 GND1, 2 VCC_IO, 3 V_BCKP, 4 GND2, 5 GND3, 6 GND4, 7 TIMEPULSE, 8 SAFEBOOT_N, 9 SDA, 10 GND5, 11 GND6, 12 SCL, 13 TXD, 14 RXD, 15 GND7, 16 GND8, 17 VCC, 18 RESET_N, 19 EXTINT, 20 GND9

## Schottky Diode GPS
designator D?, comment SDM05U40CSP-7
DIODE SCHTKY 40V 500MA X3WLB1006; Manufacturer: Diodes; Capacitance: 3.5E-11F; Element Configuration: Single; Forward Voltage: 460mV; Max Forward Surge Current (Ifsm): 14A; Max Reverse Current: 75uA; Supplier 1: Digi-Key; Manufacturer Part Number: SDM05U40CSP-7; RoHS: Yes; Category: Rectifier Diodes; Stock 1: 221856; Pricing 1: 1=0.41000, 10=0.30800, 100=0.17440, 500=0.11550, 1000=0.08855, 2000=0.07700 (USD); Mount: Surface Mount; Number of Pins: 2; Min Operating Temperature: -55°C; Max Operating Temperature: 150°C; Packaging: Tape and Reel; Reverse Voltage (DC): 40V; Average Rectified Current: 500mA; Forward Current: 500mA; Max Repetitive Reverse Voltage (Vrrm): 40V; Package Quantity: 5000; Max Reverse Voltage (DC): 40V; RoHS Compliant: Yes; ComponentLink1URL: http://www.mouser.com/ds/2/115/SDM05U40CSP-520315.pdf?src-supplier=Mouser; ComponentLink1Description: http://www.mouser.com/ds/2/115/SDM05U40CSP-520315.pdf?src-supplier=Mouser; ComponentLink2URL: https://www.diodes.com/assets/Datasheets/SDM05U40CSP.pdf?src-supplier=Digi-Key; ComponentLink2Description: https://www.diodes.com/assets/Datasheets/SDM05U40CSP.pdf?src-supplier=Digi-Key; Supplier Part Number 1: SDM05U40CSP-7DIDKR-ND; Weight: 0.4
footprint SDM05U40CSP-7
pins: A, C

## SN74AUP1G80DBVR
designator U?
Flip Flops LoPwrSngl+Pos Edge Trggrd DType; Manufacturer: Texas Instruments; Frequency: 280MHz; Number of Elements: 1; Logic Function: D-Type; Clock Edge Trigger Type: Positive Edge; Max Supply Voltage: 3.6V; Min Supply Voltage: 800mV; Propagation Delay: 17.7ns; Turn-On Delay Time: 3.1ns; High Level Output Current: -4mA; Low Level Output Current: 4mA; Polarity: Inverting; Input Type: SINGLE-ENDED; Supplier 1: Digi-Key; Manufacturer Part Number: SN74AUP1G80DBVR; RoHS: Yes; Category: Latches and Flip Flops; Stock 1: 9004; Pricing 1: 1=0.39000, 10=0.31400, 25=0.28720, 100=0.21370, 250=0.19368, 500=0.16028, 1000=0.12020 (USD); Mount: Surface Mount; Case/Package: SOT-23; Number of Pins: 5; Weight: 0.000395oz; Min Operating Temperature: -40°C; Max Operating Temperature: 85°C; Packaging: Tape and Reel; Package Quantity: 3000; Number of Bits per Element: 1; Number of Circuits: 1; Number of Input Lines: 1; Number of Output Lines: 1; Number of Bits: 1; Number of Outputs: 1; Series: 74AUP; Technology: CMOS; Radiation Hardening: No; REACH SVHC: No SVHC; Lead Free: Lead Free; RoHS Compliant: Yes; ComponentLink1URL: https://datasheet.ciiva.com/15091/getdatasheetpartid-194395-15091600.pdf?src-supplier=Verical; ComponentLink1Description: https://datasheet.ciiva.com/15091/getdatasheetpartid-194395-15091600.pdf?src-supplier=Verical; ComponentLink2URL: https://datasheet.ciiva.com/1854/sn74aup1g80-1854806.pdf?src-supplier=Digi-Key; ComponentLink2Description: https://datasheet.ciiva.com/1854/sn74aup1g80-1854806.pdf?src-supplier=Digi-Key; ComponentLink3URL: https://datasheet.ciiva.com/1854/sn74aup1g80-1854807.pdf?src-supplier=Digi-Key; ComponentLink3Description: https://datasheet.ciiva.com/1854/sn74aup1g80-1854807.pdf?src-supplier=Digi-Key; ComponentLink4URL: https://datasheet.ciiva.com/1854/sn74aup1g80-1854808.pdf?src-supplier=Digi-Key; ComponentLink4Description: https://datasheet.ciiva.com/1854/sn74aup1g80-1854808.pdf?src-supplier=Digi-Key; ComponentLink5URL: https://datasheet.ciiva.com/14313/sces593e-14313482.pdf?src-supplier=Avnet; ComponentLink5Description: https://datasheet.ciiva.com/14313/sces593e-14313482.pdf?src-supplier=Avnet; ComponentLink6URL: https://datasheet.ciiva.com/14292/sn74aup1g80-14292862.pdf?src-supplier=Avnet; ComponentLink6Description: https://datasheet.ciiva.com/14292/sn74aup1g80-14292862.pdf?src-supplier=Avnet; Supplier Part Number 1: 296-17841-1-ND
footprint SOT-23-5
pins: 1 D, 2 CLK, 3 GND, 4 ~{Q}, 5 VCC

## SS8050-G NPN
designator Q?, comment SS8050-G
NPN TRANSISTOR 1.5A 40V SOT-23 R; Manufacturer: Comchip; Collector Emitter Voltage (VCEO): 400mV; Max Power Dissipation: 300mW; Transition Frequency: 100MHz; Collector Emitter Breakdown Voltage: 25V; Supplier 1: Digi-Key; Manufacturer Part Number: SS8050-G; RoHS: Yes; Stock 1: 40284; Pricing 1: 1=0.26000, 10=0.21200, 25=0.17760, 100=0.11260, 500=0.07406, 1000=0.05036 (USD); Mount: Surface Mount; Case/Package: TO-236-3; Packaging: Tape and Reel; Max Collector Current: 1.5A; Max Breakdown Voltage: 25V; ComponentLink1URL: https://www.mouser.com/datasheet/2/80/SS8050-G_RevA181526-1481562.pdf; ComponentLink1Description: http://www.comchiptech.com/admin/files/product/SS8050-G RevA181526.pdf?src-supplier=Digi-Key; Supplier Part Number 1: 641-1790-1-ND
footprint SOT23-3
pins: B, C, E

## U.FL-R-SMT-1(10)
designator A?  (value not drawn)
HIROSE(HRS) - U.FL-R-SMT-1(10) - RF COAXIAL, U.FL, STRAIGHT JACK, 50OHM; Body Material: Bronze; Body Plating: Silver; Dielectric Material: Polymer; Impedance: 50R; Connector Type: Coaxial,Receptacle,Male Pin; Frequency: 6GHz; Insulation Resistance: 500MR; Gender: Male; Supplier 1: Digi-Key; Manufacturer: Hirose; Manufacturer Part Number: U.FL-R-SMT-1(10); RoHS: Yes; Category: RF / Coaxial Connectors; Stock 1: 24998; Pricing 1: 2500=0.62974, 5000=0.60802, 12500=0.56459 (USD); Mount: Surface Mount,Through Hole,PCB; Contact Material: Brass,Bronze; Contact Plating: Gold; Housing Color: Beige; Min Operating Temperature: -40°C; Max Operating Temperature: 90°C; Termination: Solder; Orientation: Straight; Packaging: Tape and Reel; Package Quantity: 2500; Fastening Type: Snap; Max Frequency: 6GHz; Wire/Cable Type: Coaxial; Length: 3mm; Depth: 3.1mm; Radiation Hardening: No; REACH SVHC: No SVHC; Lead Free: Lead Free; ComponentLink1URL: https://datasheet.ciiva.com/11762/0900766b8105243f-11762474.pdf?src-supplier=RSComponents; ComponentLink1Description: https://datasheet.ciiva.com/11762/0900766b8105243f-11762474.pdf?src-supplier=RSComponents; ComponentLink2URL: https://datasheet.ciiva.com/7651/91524-7651914.pdf?src-supplier=Element14; ComponentLink2Description: https://datasheet.ciiva.com/7651/91524-7651914.pdf?src-supplier=Element14; ComponentLink3URL: https://datasheet.ciiva.com/7651/91524-7651915.pdf?src-supplier=Element14; ComponentLink3Description: https://datasheet.ciiva.com/7651/91524-7651915.pdf?src-supplier=Element14; Supplier Part Number 1: H11891TR-ND
footprint HRS_U.FL-R-SMT-1(10)
pins: GND, SIG